# Altium schematic symbol library MDSM-4R-12-18.SchLib: 1 symbol
Pins are listed as number, name and electrical type; pins without a type are passive.

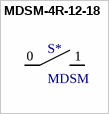
[diagram p0: symbol MDSM-4R-12-18]

## MDSM-4R-12-18
designator S*, comment MDSM
Reed Switch
footprint MDSM-4R-12-18 (Reed Switch)
pins: 0, 1